# Altium schematic symbol library VEJ222M1ETR-1616.SchLib: 1 symbol
Pins are listed as number, name and electrical type; pins without a type are passive.

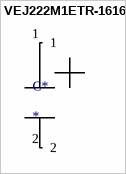
[diagram p0: symbol VEJ222M1ETR-1616]

## VEJ222M1ETR-1616
designator C*
footprint CAPAE180170X170M (Aluminum Electrolytic Capacitor, Body 17.00x17.00x17.00mm, IPC Low Density)
pins: 1, 2